# Altium footprint library 21700_BAT.PcbLib: 1 footprints
Each footprint in its own frame and in the unit in brackets; x right, y up, seen from the top. Pads: shape width x height; smd on the part's side, far side on the other; paste and mask are expansions set on the pad; w line width, h text height; cw(c..) or ccw(c..) is an arc to the next point about the centre after c.
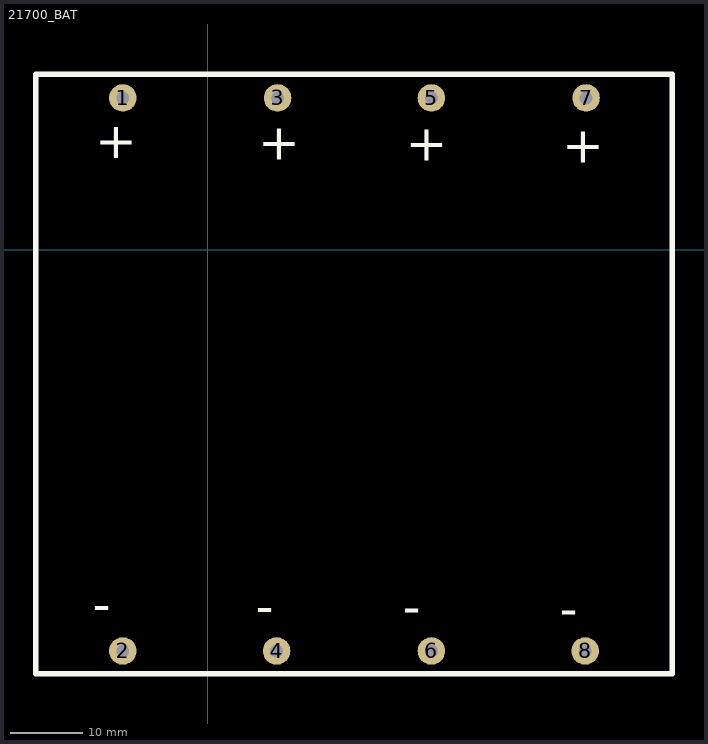
[diagram p0: the footprint, top view; thin cyan lines are the x and y axes]

## 21700_BAT [mil]
pads (8):
  round 150 hole 70: 1(-465,830) 2(-465,-2190) 3(380,830) 4(375,-2190) 5(1220,830) 6(1220,-2190) 7(2065,830) 8(2060,-2190)
Top Overlay:
  lines w30: -940,-2315 2535,-2315 2535,960 -940,960 -940,-2315
  text "-" at 1920,-2054.97 h200
  text "-" at 1065,-2044.97 h200
  text "-" at 260,-2039.97 h200
  text "-" at -630,-2029.97 h200
  text "+" at 1935,476.68 h200
  text "+" at 1080,486.68 h200
  text "+" at 275,491.68 h200
  text "+" at -615,501.68 h200
Bottom Overlay:
  lines w30: -940,-2315 2535,-2315 2535,960 -940,960 -940,-2315
  text "-" at 1920,-2014.97 h200
  text "-" at 260,-1999.97 h200
  text "-" at -630,-1989.97 h200
  text "-" at 1065,-2004.97 h200
  text "+" at 1950,456.68 h200
  text "+" at 1095,466.68 h200
  text "+" at -600,481.68 h200
  text "+" at 290,471.68 h200
3D body "Hold_21700-4p.stp": height 858.27, standoff -157.48, extent -932.28,-2315 2532.28,952.72